# Altium footprint library con-sullinselectronics.PCBLIB: 22 footprints (part 1 of 2)
Each footprint in its own frame and in the unit in brackets; x right, y up, seen from the top. Pads: shape width x height; smd on the part's side, far side on the other; paste and mask are expansions set on the pad; w line width, h text height; cw(c..) or ccw(c..) is an arc to the next point about the centre after c.
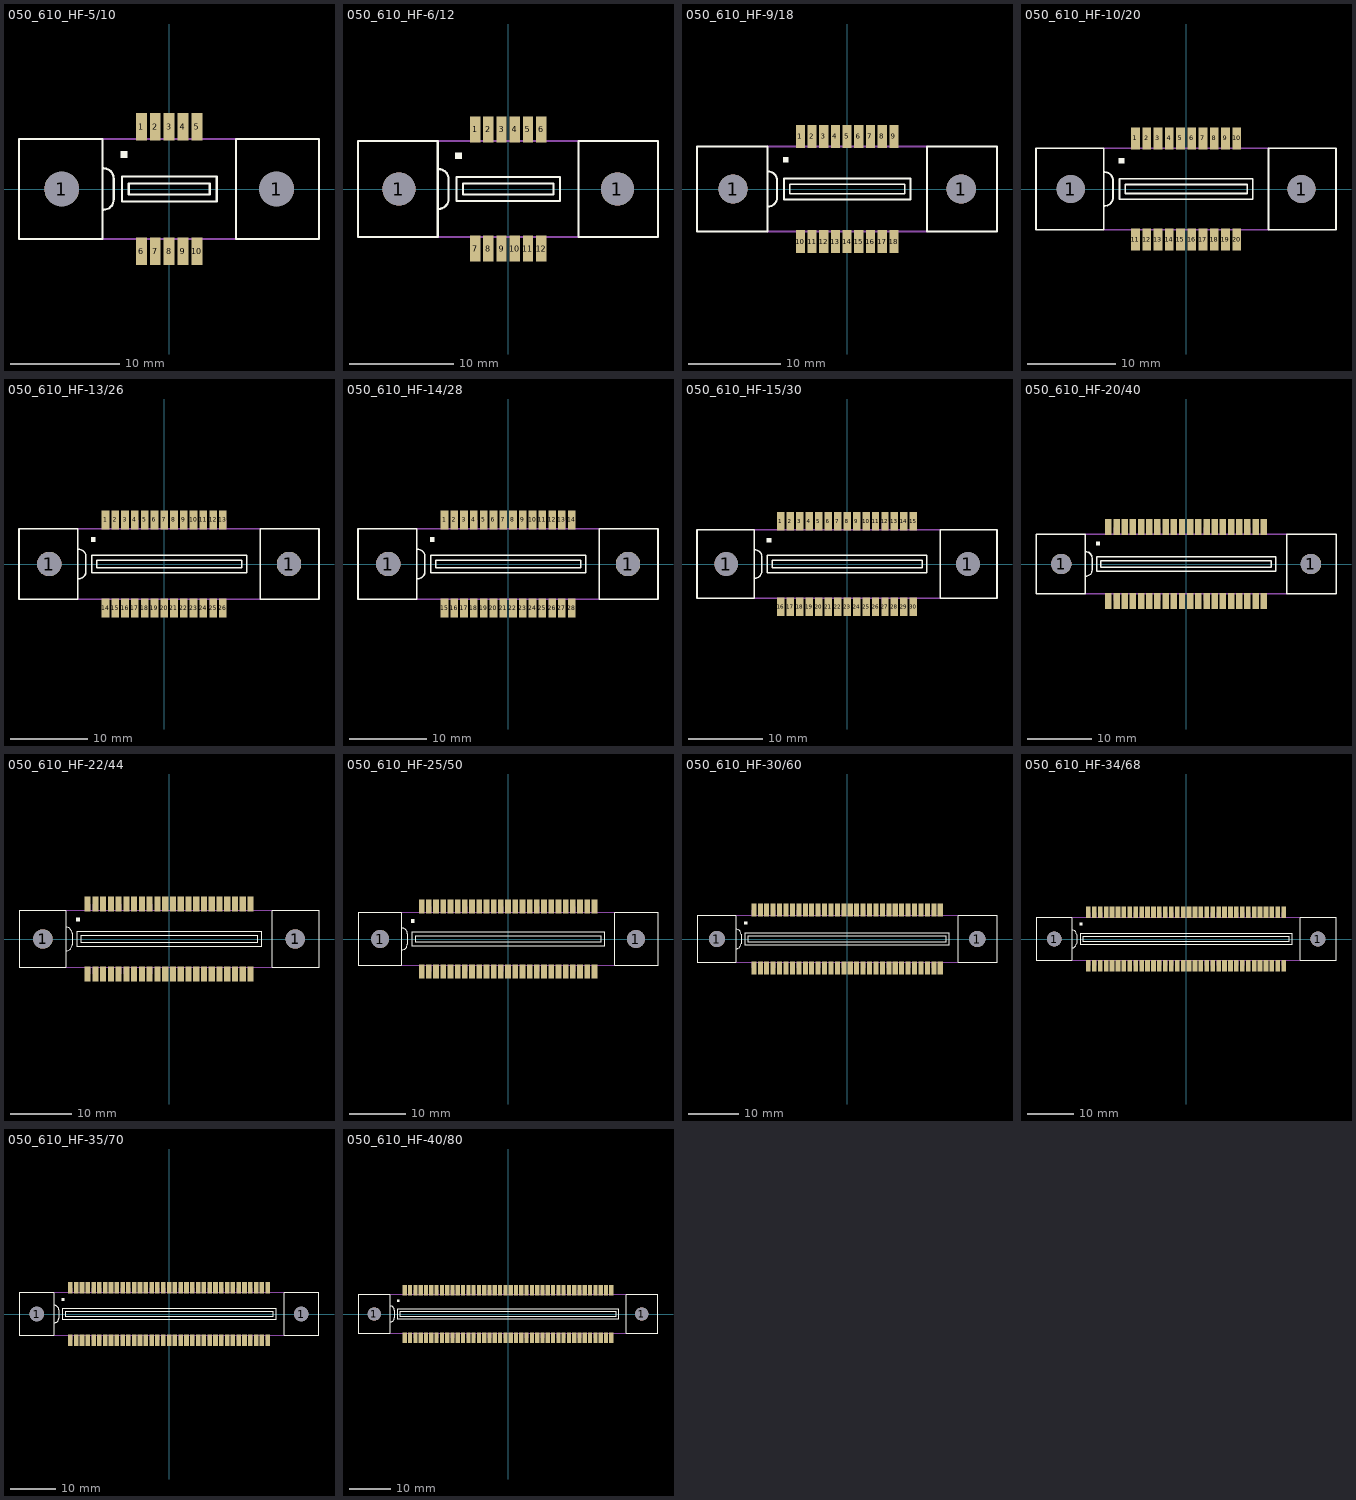
[diagram p0: the footprints below, top view; thin cyan lines are the x and y axes]

## 050_610_HF-5/10 [mm]
pads (12):
  round 3.18 hole 3.18: 1(-9.855,0) 1(9.855,0)
  rect 1x2.5 smd: 1(-2.54,5.715) 2(-1.27,5.715) 3(0,5.715) 4(1.27,5.715) 5(2.54,5.715) 6(-2.54,-5.715) 7(-1.27,-5.715) 8(0,-5.715) 9(1.27,-5.715) 10(2.54,-5.715)
Top Overlay:
  rectangle: -4.445,2.857 -3.81,3.492
  lines w0.203: -6.032,-1.905 ccw(c-6.033,-0.952) -5.08,-0.953 -5.08,0.953 ccw(c-6.032,0.953) -6.032,1.905 ; -13.775,-4.6 -6.125,-4.6 -6.125,4.6 -13.775,4.6 -13.775,-4.6 ; -4.335,-1.15 4.36,-1.15 4.36,1.15 -4.335,1.15 -4.335,-1.15 ; -3.7,-0.515 3.725,-0.515 3.725,0.515 -3.7,0.515 -3.7,-0.515 ; 6.125,-4.6 13.75,-4.6 13.75,4.6 6.125,4.6 6.125,-4.6
Mechanical 16:
  rectangle: -2.975,4.65 -2.1,5.7
  rectangle: -1.705,4.65 -0.83,5.7
  rectangle: -0.435,4.65 0.44,5.7
  rectangle: 0.835,4.65 1.71,5.7
  rectangle: 2.105,4.65 2.98,5.7
  region: 2.975,-4.65 2.1,-4.65 2.1,-5.7 2.975,-5.7
  region: 1.705,-4.65 0.83,-4.65 0.83,-5.7 1.705,-5.7
  region: 0.435,-4.65 -0.44,-4.65 -0.44,-5.7 0.435,-5.7
  region: -0.835,-4.65 -1.71,-4.65 -1.71,-5.7 -0.835,-5.7
  region: -2.105,-4.65 -2.98,-4.65 -2.98,-5.7 -2.105,-5.7
  lines w0.203: -6.125,-4.6 6.125,-4.6 ; -6.125,4.6 6.125,4.6

## 050_610_HF-6/12 [mm]
pads (14):
  round 3.18 hole 3.18: 1(-10.49,0) 1(10.49,0)
  rect 1x2.5 smd: 1(-3.175,5.715) 2(-1.905,5.715) 3(-0.635,5.715) 4(0.635,5.715) 5(1.905,5.715) 6(3.175,5.715) 7(-3.175,-5.715) 8(-1.905,-5.715) 9(-0.635,-5.715) 10(0.635,-5.715) 11(1.905,-5.715) 12(3.175,-5.715)
Top Overlay:
  rectangle: -5.08,2.857 -4.445,3.492
  lines w0.203: -6.667,-1.905 ccw(c-6.668,-0.952) -5.715,-0.953 -5.715,0.953 ccw(c-6.667,0.953) -6.667,1.905 ; -14.41,-4.6 -6.76,-4.6 -6.76,4.6 -14.41,4.6 -14.41,-4.6 ; -4.97,-1.15 4.995,-1.15 4.995,1.15 -4.97,1.15 -4.97,-1.15 ; -4.335,-0.515 4.36,-0.515 4.36,0.515 -4.335,0.515 -4.335,-0.515 ; 6.76,-4.6 14.385,-4.6 14.385,4.6 6.76,4.6 6.76,-4.6
Mechanical 16:
  rectangle: -3.61,4.65 -2.735,5.7
  rectangle: -2.34,4.65 -1.465,5.7
  rectangle: -1.07,4.65 -0.195,5.7
  rectangle: 0.2,4.65 1.075,5.7
  rectangle: 1.47,4.65 2.345,5.7
  rectangle: 2.74,4.65 3.615,5.7
  region: 1.07,-4.65 0.195,-4.65 0.195,-5.7 1.07,-5.7
  region: -0.2,-4.65 -1.075,-4.65 -1.075,-5.7 -0.2,-5.7
  region: -1.47,-4.65 -2.345,-4.65 -2.345,-5.7 -1.47,-5.7
  region: -2.74,-4.65 -3.615,-4.65 -3.615,-5.7 -2.74,-5.7
  region: 3.61,-4.65 2.735,-4.65 2.735,-5.7 3.61,-5.7
  region: 2.34,-4.65 1.465,-4.65 1.465,-5.7 2.34,-5.7
  lines w0.203: -6.76,-4.6 6.76,-4.6 ; -6.76,4.6 6.76,4.6

## 050_610_HF-9/18 [mm]
pads (20):
  round 3.18 hole 3.18: 1(-12.395,0) 1(12.395,0)
  rect 1x2.5 smd: 1(-5.08,5.715) 2(-3.81,5.715) 3(-2.54,5.715) 4(-1.27,5.715) 5(0,5.715) 6(1.27,5.715) 7(2.54,5.715) 8(3.81,5.715) 9(5.08,5.715) 10(-5.08,-5.715) 11(-3.81,-5.715) 12(-2.54,-5.715) 13(-1.27,-5.715) 14(0,-5.715) 15(1.27,-5.715) 16(2.54,-5.715) 17(3.81,-5.715) 18(5.08,-5.715)
Top Overlay:
  rectangle: -6.985,2.857 -6.35,3.492
  lines w0.203: -8.572,-1.905 ccw(c-8.573,-0.952) -7.62,-0.953 -7.62,0.953 ccw(c-8.572,0.953) -8.572,1.905 ; -16.315,-4.6 -8.665,-4.6 -8.665,4.6 -16.315,4.6 -16.315,-4.6 ; -6.875,-1.15 6.9,-1.15 6.9,1.15 -6.875,1.15 -6.875,-1.15 ; -6.24,-0.515 6.265,-0.515 6.265,0.515 -6.24,0.515 -6.24,-0.515 ; 8.665,-4.6 16.29,-4.6 16.29,4.6 8.665,4.6 8.665,-4.6
Mechanical 16:
  rectangle: -5.515,4.65 -4.64,5.7
  rectangle: -4.245,4.65 -3.37,5.7
  rectangle: -2.975,4.65 -2.1,5.7
  rectangle: -1.705,4.65 -0.83,5.7
  rectangle: -0.435,4.65 0.44,5.7
  rectangle: 0.835,4.65 1.71,5.7
  rectangle: 2.105,4.65 2.98,5.7
  rectangle: 3.375,4.65 4.25,5.7
  rectangle: 4.645,4.65 5.52,5.7
  region: -4.645,-4.65 -5.52,-4.65 -5.52,-5.7 -4.645,-5.7
  region: 5.515,-4.65 4.64,-4.65 4.64,-5.7 5.515,-5.7
  region: 4.245,-4.65 3.37,-4.65 3.37,-5.7 4.245,-5.7
  region: 2.975,-4.65 2.1,-4.65 2.1,-5.7 2.975,-5.7
  region: 1.705,-4.65 0.83,-4.65 0.83,-5.7 1.705,-5.7
  region: 0.435,-4.65 -0.44,-4.65 -0.44,-5.7 0.435,-5.7
  region: -0.835,-4.65 -1.71,-4.65 -1.71,-5.7 -0.835,-5.7
  region: -2.105,-4.65 -2.98,-4.65 -2.98,-5.7 -2.105,-5.7
  region: -3.375,-4.65 -4.25,-4.65 -4.25,-5.7 -3.375,-5.7
  lines w0.203: -8.665,-4.6 8.665,-4.6 ; -8.665,4.6 8.665,4.6

## 050_610_HF-10/20 [mm]
pads (22):
  round 3.18 hole 3.18: 1(-13.03,0) 1(13.03,0)
  rect 1x2.5 smd: 1(-5.715,5.715) 2(-4.445,5.715) 3(-3.175,5.715) 4(-1.905,5.715) 5(-0.635,5.715) 6(0.635,5.715) 7(1.905,5.715) 8(3.175,5.715) 9(4.445,5.715) 10(5.715,5.715) 11(-5.715,-5.715) 12(-4.445,-5.715) 13(-3.175,-5.715) 14(-1.905,-5.715) 15(-0.635,-5.715) 16(0.635,-5.715) 17(1.905,-5.715) 18(3.175,-5.715) 19(4.445,-5.715) 20(5.715,-5.715)
Top Overlay:
  rectangle: -7.62,2.857 -6.985,3.492
  lines w0.203: -9.207,-1.905 ccw(c-9.208,-0.952) -8.255,-0.953 -8.255,0.953 ccw(c-9.207,0.953) -9.207,1.905 ; -16.95,-4.6 -9.3,-4.6 -9.3,4.6 -16.95,4.6 -16.95,-4.6 ; -7.51,-1.15 7.535,-1.15 7.535,1.15 -7.51,1.15 -7.51,-1.15 ; -6.875,-0.515 6.9,-0.515 6.9,0.515 -6.875,0.515 -6.875,-0.515 ; 9.3,-4.6 16.925,-4.6 16.925,4.6 9.3,4.6 9.3,-4.6
Mechanical 16:
  rectangle: -6.15,4.65 -5.275,5.7
  rectangle: -4.88,4.65 -4.005,5.7
  rectangle: -3.61,4.65 -2.735,5.7
  rectangle: -2.34,4.65 -1.465,5.7
  rectangle: -1.07,4.65 -0.195,5.7
  rectangle: 0.2,4.65 1.075,5.7
  rectangle: 1.47,4.65 2.345,5.7
  rectangle: 2.74,4.65 3.615,5.7
  rectangle: 4.01,4.65 4.885,5.7
  rectangle: 5.28,4.65 6.155,5.7
  region: 6.15,-4.65 5.275,-4.65 5.275,-5.7 6.15,-5.7
  region: 4.88,-4.65 4.005,-4.65 4.005,-5.7 4.88,-5.7
  region: 3.61,-4.65 2.735,-4.65 2.735,-5.7 3.61,-5.7
  region: 2.34,-4.65 1.465,-4.65 1.465,-5.7 2.34,-5.7
  region: 1.07,-4.65 0.195,-4.65 0.195,-5.7 1.07,-5.7
  region: -0.2,-4.65 -1.075,-4.65 -1.075,-5.7 -0.2,-5.7
  region: -1.47,-4.65 -2.345,-4.65 -2.345,-5.7 -1.47,-5.7
  region: -2.74,-4.65 -3.615,-4.65 -3.615,-5.7 -2.74,-5.7
  region: -4.01,-4.65 -4.885,-4.65 -4.885,-5.7 -4.01,-5.7
  region: -5.28,-4.65 -6.155,-4.65 -6.155,-5.7 -5.28,-5.7
  lines w0.203: -9.3,-4.6 9.3,-4.6 ; -9.3,4.6 9.3,4.6

## 050_610_HF-13/26 [mm]
pads (28):
  round 3.18 hole 3.18: 1(-14.935,0) 1(16.205,0)
  rect 1x2.5 smd: 1(-7.62,5.715) 2(-6.35,5.715) 3(-5.08,5.715) 4(-3.81,5.715) 5(-2.54,5.715) 6(-1.27,5.715) 7(0,5.715) 8(1.27,5.715) 9(2.54,5.715) 10(3.81,5.715) 11(5.08,5.715) 12(6.35,5.715) 13(7.62,5.715) 14(-7.62,-5.715) 15(-6.35,-5.715) 16(-5.08,-5.715) 17(-3.81,-5.715) 18(-2.54,-5.715) 19(-1.27,-5.715) 20(0,-5.715) 21(1.27,-5.715) 22(2.54,-5.715) 23(3.81,-5.715) 24(5.08,-5.715) 25(6.35,-5.715) 26(7.62,-5.715)
Top Overlay:
  rectangle: -9.525,2.857 -8.89,3.492
  lines w0.203: -11.112,-1.905 ccw(c-11.113,-0.952) -10.16,-0.953 -10.16,0.953 ccw(c-11.112,0.953) -11.112,1.905 ; -18.855,-4.6 -11.205,-4.6 -11.205,4.6 -18.855,4.6 -18.855,-4.6 ; -9.415,-1.15 10.71,-1.15 10.71,1.15 -9.415,1.15 -9.415,-1.15 ; -8.78,-0.515 10.075,-0.515 10.075,0.515 -8.78,0.515 -8.78,-0.515 ; 12.475,-4.6 20.1,-4.6 20.1,4.6 12.475,4.6 12.475,-4.6
Mechanical 16:
  rectangle: -8.055,4.65 -7.18,5.7
  rectangle: -6.785,4.65 -5.91,5.7
  rectangle: -5.515,4.65 -4.64,5.7
  rectangle: -4.245,4.65 -3.37,5.7
  rectangle: -2.975,4.65 -2.1,5.7
  rectangle: -1.705,4.65 -0.83,5.7
  rectangle: -0.435,4.65 0.44,5.7
  rectangle: 0.835,4.65 1.71,5.7
  rectangle: 2.105,4.65 2.98,5.7
  rectangle: 3.375,4.65 4.25,5.7
  region: 0.435,-4.65 -0.44,-4.65 -0.44,-5.7 0.435,-5.7
  region: -0.835,-4.65 -1.71,-4.65 -1.71,-5.7 -0.835,-5.7
  region: -2.105,-4.65 -2.98,-4.65 -2.98,-5.7 -2.105,-5.7
  region: -3.375,-4.65 -4.25,-4.65 -4.25,-5.7 -3.375,-5.7
  region: -4.645,-4.65 -5.52,-4.65 -5.52,-5.7 -4.645,-5.7
  region: -5.915,-4.65 -6.79,-4.65 -6.79,-5.7 -5.915,-5.7
  region: -7.185,-4.65 -8.06,-4.65 -8.06,-5.7 -7.185,-5.7
  rectangle: 4.645,4.65 5.52,5.7
  rectangle: 5.915,4.65 6.79,5.7
  rectangle: 7.185,4.65 8.06,5.7
  region: 8.055,-4.65 7.18,-4.65 7.18,-5.7 8.055,-5.7
  region: 6.785,-4.65 5.91,-4.65 5.91,-5.7 6.785,-5.7
  region: 5.515,-4.65 4.64,-4.65 4.64,-5.7 5.515,-5.7
  region: 4.245,-4.65 3.37,-4.65 3.37,-5.7 4.245,-5.7
  region: 2.975,-4.65 2.1,-4.65 2.1,-5.7 2.975,-5.7
  region: 1.705,-4.65 0.83,-4.65 0.83,-5.7 1.705,-5.7
  lines w0.203: -11.205,-4.6 12.475,-4.6 ; -11.205,4.6 12.475,4.6

## 050_610_HF-14/28 [mm]
pads (30):
  round 3.18 hole 3.18: 1(-15.57,0) 1(15.57,0)
  rect 1x2.5 smd: 1(-8.255,5.715) 2(-6.985,5.715) 3(-5.715,5.715) 4(-4.445,5.715) 5(-3.175,5.715) 6(-1.905,5.715) 7(-0.635,5.715) 8(0.635,5.715) 9(1.905,5.715) 10(3.175,5.715) 11(4.445,5.715) 12(5.715,5.715) 13(6.985,5.715) 14(8.255,5.715) 15(-8.255,-5.715) 16(-6.985,-5.715) 17(-5.715,-5.715) 18(-4.445,-5.715) 19(-3.175,-5.715) 20(-1.905,-5.715) 21(-0.635,-5.715) 22(0.635,-5.715) 23(1.905,-5.715) 24(3.175,-5.715) 25(4.445,-5.715) 26(5.715,-5.715) 27(6.985,-5.715) 28(8.255,-5.715)
Top Overlay:
  rectangle: -10.16,2.857 -9.525,3.492
  lines w0.203: -11.747,-1.905 ccw(c-11.748,-0.952) -10.795,-0.953 -10.795,0.953 ccw(c-11.747,0.953) -11.747,1.905 ; -19.49,-4.6 -11.84,-4.6 -11.84,4.6 -19.49,4.6 -19.49,-4.6 ; -10.05,-1.15 10.075,-1.15 10.075,1.15 -10.05,1.15 -10.05,-1.15 ; -9.415,-0.515 9.44,-0.515 9.44,0.515 -9.415,0.515 -9.415,-0.515 ; 11.84,-4.6 19.465,-4.6 19.465,4.6 11.84,4.6 11.84,-4.6
Mechanical 16:
  rectangle: -8.69,4.65 -7.815,5.7
  rectangle: -7.42,4.65 -6.545,5.7
  rectangle: -6.15,4.65 -5.275,5.7
  rectangle: -4.88,4.65 -4.005,5.7
  rectangle: -3.61,4.65 -2.735,5.7
  rectangle: -2.34,4.65 -1.465,5.7
  rectangle: -1.07,4.65 -0.195,5.7
  rectangle: 0.2,4.65 1.075,5.7
  rectangle: 1.47,4.65 2.345,5.7
  rectangle: 2.74,4.65 3.615,5.7
  region: -1.47,-4.65 -2.345,-4.65 -2.345,-5.7 -1.47,-5.7
  region: -2.74,-4.65 -3.615,-4.65 -3.615,-5.7 -2.74,-5.7
  region: -4.01,-4.65 -4.885,-4.65 -4.885,-5.7 -4.01,-5.7
  region: -5.28,-4.65 -6.155,-4.65 -6.155,-5.7 -5.28,-5.7
  region: -6.55,-4.65 -7.425,-4.65 -7.425,-5.7 -6.55,-5.7
  region: -7.82,-4.65 -8.695,-4.65 -8.695,-5.7 -7.82,-5.7
  rectangle: 7.82,4.65 8.695,5.7
  rectangle: 4.01,4.65 4.885,5.7
  rectangle: 5.28,4.65 6.155,5.7
  rectangle: 6.55,4.65 7.425,5.7
  region: 6.15,-4.65 5.275,-4.65 5.275,-5.7 6.15,-5.7
  region: 4.88,-4.65 4.005,-4.65 4.005,-5.7 4.88,-5.7
  region: 3.61,-4.65 2.735,-4.65 2.735,-5.7 3.61,-5.7
  region: 2.34,-4.65 1.465,-4.65 1.465,-5.7 2.34,-5.7
  region: 1.07,-4.65 0.195,-4.65 0.195,-5.7 1.07,-5.7
  region: -0.2,-4.65 -1.075,-4.65 -1.075,-5.7 -0.2,-5.7
  region: 8.69,-4.65 7.815,-4.65 7.815,-5.7 8.69,-5.7
  region: 7.42,-4.65 6.545,-4.65 6.545,-5.7 7.42,-5.7
  lines w0.203: -11.84,-4.6 11.84,-4.6 ; -11.84,4.6 11.84,4.6

## 050_610_HF-15/30 [mm]
pads (32):
  round 3.18 hole 3.18: 1(-16.205,0) 1(16.205,0)
  rect 1x2.5 smd: 1(-8.89,5.715) 2(-7.62,5.715) 3(-6.35,5.715) 4(-5.08,5.715) 5(-3.81,5.715) 6(-2.54,5.715) 7(-1.27,5.715) 8(0,5.715) 9(1.27,5.715) 10(2.54,5.715) 11(3.81,5.715) 12(5.08,5.715) 13(6.35,5.715) 14(7.62,5.715) 15(8.89,5.715) 16(-8.89,-5.715) 17(-7.62,-5.715) 18(-6.35,-5.715) 19(-5.08,-5.715) 20(-3.81,-5.715) 21(-2.54,-5.715) 22(-1.27,-5.715) 23(0,-5.715) 24(1.27,-5.715) 25(2.54,-5.715) 26(3.81,-5.715) 27(5.08,-5.715) 28(6.35,-5.715) 29(7.62,-5.715) 30(8.89,-5.715)
Top Overlay:
  rectangle: -10.795,2.857 -10.16,3.492
  lines w0.203: -12.382,-1.905 ccw(c-12.383,-0.952) -11.43,-0.953 -11.43,0.953 ccw(c-12.383,0.953) -12.383,1.905 ; -20.125,-4.6 -12.475,-4.6 -12.475,4.6 -20.125,4.6 -20.125,-4.6 ; -10.685,-1.15 10.71,-1.15 10.71,1.15 -10.685,1.15 -10.685,-1.15 ; -10.05,-0.515 10.075,-0.515 10.075,0.515 -10.05,0.515 -10.05,-0.515 ; 12.475,-4.6 20.1,-4.6 20.1,4.6 12.475,4.6 12.475,-4.6
Mechanical 16:
  rectangle: -9.325,4.65 -8.45,5.7
  rectangle: -8.055,4.65 -7.18,5.7
  rectangle: -6.785,4.65 -5.91,5.7
  rectangle: -5.515,4.65 -4.64,5.7
  rectangle: -4.245,4.65 -3.37,5.7
  rectangle: -2.975,4.65 -2.1,5.7
  rectangle: -1.705,4.65 -0.83,5.7
  rectangle: -0.435,4.65 0.44,5.7
  rectangle: 0.835,4.65 1.71,5.7
  rectangle: 2.105,4.65 2.98,5.7
  region: -3.375,-4.65 -4.25,-4.65 -4.25,-5.7 -3.375,-5.7
  region: -4.645,-4.65 -5.52,-4.65 -5.52,-5.7 -4.645,-5.7
  region: -5.915,-4.65 -6.79,-4.65 -6.79,-5.7 -5.915,-5.7
  region: -7.185,-4.65 -8.06,-4.65 -8.06,-5.7 -7.185,-5.7
  region: -8.455,-4.65 -9.33,-4.65 -9.33,-5.7 -8.455,-5.7
  rectangle: 8.455,4.65 9.33,5.7
  rectangle: 7.185,4.65 8.06,5.7
  rectangle: 3.375,4.65 4.25,5.7
  rectangle: 4.645,4.65 5.52,5.7
  rectangle: 5.915,4.65 6.79,5.7
  region: 4.245,-4.65 3.37,-4.65 3.37,-5.7 4.245,-5.7
  region: 2.975,-4.65 2.1,-4.65 2.1,-5.7 2.975,-5.7
  region: 1.705,-4.65 0.83,-4.65 0.83,-5.7 1.705,-5.7
  region: 0.435,-4.65 -0.44,-4.65 -0.44,-5.7 0.435,-5.7
  region: -0.835,-4.65 -1.71,-4.65 -1.71,-5.7 -0.835,-5.7
  region: -2.105,-4.65 -2.98,-4.65 -2.98,-5.7 -2.105,-5.7
  region: 6.785,-4.65 5.91,-4.65 5.91,-5.7 6.785,-5.7
  region: 5.515,-4.65 4.64,-4.65 4.64,-5.7 5.515,-5.7
  region: 8.055,-4.65 7.18,-4.65 7.18,-5.7 8.055,-5.7
  region: 9.325,-4.65 8.45,-4.65 8.45,-5.7 9.325,-5.7
  lines w0.203: -12.475,-4.6 12.475,-4.6 ; -12.475,4.6 12.475,4.6

## 050_610_HF-20/40 [mm]
pads (42):
  round 3.18 hole 3.18: 1(-19.38,0) 1(19.38,0)
  rect 1x2.5 smd: 1(-12.065,5.715) 2(-10.795,5.715) 3(-9.525,5.715) 4(-8.255,5.715) 5(-6.985,5.715) 6(-5.715,5.715) 7(-4.445,5.715) 8(-3.175,5.715) 9(-1.905,5.715) 10(-0.635,5.715) 11(0.635,5.715) 12(1.905,5.715) 13(3.175,5.715) 14(4.445,5.715) 15(5.715,5.715) 16(6.985,5.715) 17(8.255,5.715) 18(9.525,5.715) 19(10.795,5.715) 20(12.065,5.715) 21(-12.065,-5.715) 22(-10.795,-5.715) 23(-9.525,-5.715) 24(-8.255,-5.715) 25(-6.985,-5.715) 26(-5.715,-5.715) 27(-4.445,-5.715) 28(-3.175,-5.715) 29(-1.905,-5.715) 30(-0.635,-5.715) 31(0.635,-5.715) 32(1.905,-5.715) 33(3.175,-5.715) 34(4.445,-5.715) 35(5.715,-5.715) 36(6.985,-5.715) 37(8.255,-5.715) 38(9.525,-5.715) 39(10.795,-5.715) 40(12.065,-5.715)
Top Overlay:
  rectangle: -13.97,2.857 -13.335,3.492
  lines w0.203: -15.557,-1.905 ccw(c-15.558,-0.952) -14.605,-0.953 -14.605,0.953 ccw(c-15.557,0.953) -15.557,1.905 ; -23.3,-4.6 -15.65,-4.6 -15.65,4.6 -23.3,4.6 -23.3,-4.6 ; -13.86,-1.15 13.885,-1.15 13.885,1.15 -13.86,1.15 -13.86,-1.15 ; -13.225,-0.515 13.25,-0.515 13.25,0.515 -13.225,0.515 -13.225,-0.515 ; 15.65,-4.6 23.275,-4.6 23.275,4.6 15.65,4.6 15.65,-4.6
Mechanical 16:
  rectangle: -12.5,4.65 -11.625,5.7
  rectangle: -11.23,4.65 -10.355,5.7
  rectangle: -9.96,4.65 -9.085,5.7
  rectangle: -8.69,4.65 -7.815,5.7
  rectangle: -7.42,4.65 -6.545,5.7
  rectangle: -6.15,4.65 -5.275,5.7
  rectangle: -4.88,4.65 -4.005,5.7
  rectangle: -3.61,4.65 -2.735,5.7
  rectangle: -2.34,4.65 -1.465,5.7
  rectangle: -1.07,4.65 -0.195,5.7
  rectangle: 11.63,4.65 12.505,5.7
  rectangle: 10.36,4.65 11.235,5.7
  rectangle: 9.09,4.65 9.965,5.7
  rectangle: 7.82,4.65 8.695,5.7
  rectangle: 6.55,4.65 7.425,5.7
  rectangle: 5.28,4.65 6.155,5.7
  rectangle: 4.01,4.65 4.885,5.7
  rectangle: 0.2,4.65 1.075,5.7
  rectangle: 1.47,4.65 2.345,5.7
  rectangle: 2.74,4.65 3.615,5.7
  region: -5.28,-4.65 -6.155,-4.65 -6.155,-5.7 -5.28,-5.7
  region: -6.55,-4.65 -7.425,-4.65 -7.425,-5.7 -6.55,-5.7
  region: -7.82,-4.65 -8.695,-4.65 -8.695,-5.7 -7.82,-5.7
  region: -9.09,-4.65 -9.965,-4.65 -9.965,-5.7 -9.09,-5.7
  region: -10.36,-4.65 -11.235,-4.65 -11.235,-5.7 -10.36,-5.7
  region: -11.63,-4.65 -12.505,-4.65 -12.505,-5.7 -11.63,-5.7
  region: -2.74,-4.65 -3.615,-4.65 -3.615,-5.7 -2.74,-5.7
  region: -4.01,-4.65 -4.885,-4.65 -4.885,-5.7 -4.01,-5.7
  region: -1.47,-4.65 -2.345,-4.65 -2.345,-5.7 -1.47,-5.7
  region: -0.2,-4.65 -1.075,-4.65 -1.075,-5.7 -0.2,-5.7
  region: 7.42,-4.65 6.545,-4.65 6.545,-5.7 7.42,-5.7
  region: 6.15,-4.65 5.275,-4.65 5.275,-5.7 6.15,-5.7
  region: 4.88,-4.65 4.005,-4.65 4.005,-5.7 4.88,-5.7
  region: 3.61,-4.65 2.735,-4.65 2.735,-5.7 3.61,-5.7
  region: 2.34,-4.65 1.465,-4.65 1.465,-5.7 2.34,-5.7
  region: 1.07,-4.65 0.195,-4.65 0.195,-5.7 1.07,-5.7
  region: 9.96,-4.65 9.085,-4.65 9.085,-5.7 9.96,-5.7
  region: 8.69,-4.65 7.815,-4.65 7.815,-5.7 8.69,-5.7
  region: 11.23,-4.65 10.355,-4.65 10.355,-5.7 11.23,-5.7
  region: 12.5,-4.65 11.625,-4.65 11.625,-5.7 12.5,-5.7
  lines w0.203: -15.65,-4.6 15.65,-4.6 ; -15.65,4.6 15.65,4.6

## 050_610_HF-22/44 [mm]
pads (46):
  round 3.18 hole 3.18: 1(-20.65,0) 1(20.65,0)
  rect 1x2.5 smd: 1(-13.335,5.715) 2(-12.065,5.715) 3(-10.795,5.715) 4(-9.525,5.715) 5(-8.255,5.715) 6(-6.985,5.715) 7(-5.715,5.715) 8(-4.445,5.715) 9(-3.175,5.715) 10(-1.905,5.715) 11(-0.635,5.715) 12(0.635,5.715) 13(1.905,5.715) 14(3.175,5.715) 15(4.445,5.715) 16(5.715,5.715) 17(6.985,5.715) 18(8.255,5.715) 19(9.525,5.715) 20(10.795,5.715) 21(12.065,5.715) 22(13.335,5.715) 23(-13.335,-5.715) 24(-12.065,-5.715) 25(-10.795,-5.715) 26(-9.525,-5.715) 27(-8.255,-5.715) 28(-6.985,-5.715) 29(-5.715,-5.715) 30(-4.445,-5.715) 31(-3.175,-5.715) 32(-1.905,-5.715) 33(-0.635,-5.715) 34(0.635,-5.715) 35(1.905,-5.715) 36(3.175,-5.715) 37(4.445,-5.715) 38(5.715,-5.715) 39(6.985,-5.715) 40(8.255,-5.715) 41(9.525,-5.715) 42(10.795,-5.715) 43(12.065,-5.715) 44(13.335,-5.715)
Top Overlay:
  rectangle: -15.24,2.857 -14.605,3.492
  lines w0.203: -16.827,-1.905 ccw(c-16.828,-0.952) -15.875,-0.953 -15.875,0.953 ccw(c-16.828,0.953) -16.828,1.905 ; -24.57,-4.6 -16.92,-4.6 -16.92,4.6 -24.57,4.6 -24.57,-4.6 ; -15.13,-1.15 15.155,-1.15 15.155,1.15 -15.13,1.15 -15.13,-1.15 ; -14.495,-0.515 14.52,-0.515 14.52,0.515 -14.495,0.515 -14.495,-0.515 ; 16.92,-4.6 24.545,-4.6 24.545,4.6 16.92,4.6 16.92,-4.6
Mechanical 16:
  rectangle: -13.77,4.65 -12.895,5.7
  rectangle: -12.5,4.65 -11.625,5.7
  rectangle: -11.23,4.65 -10.355,5.7
  rectangle: -9.96,4.65 -9.085,5.7
  rectangle: -8.69,4.65 -7.815,5.7
  rectangle: -7.42,4.65 -6.545,5.7
  rectangle: -6.15,4.65 -5.275,5.7
  rectangle: -4.88,4.65 -4.005,5.7
  rectangle: -3.61,4.65 -2.735,5.7
  rectangle: -2.34,4.65 -1.465,5.7
  rectangle: 10.36,4.65 11.235,5.7
  rectangle: 9.09,4.65 9.965,5.7
  rectangle: 7.82,4.65 8.695,5.7
  rectangle: 6.55,4.65 7.425,5.7
  rectangle: 5.28,4.65 6.155,5.7
  rectangle: 4.01,4.65 4.885,5.7
  rectangle: 2.74,4.65 3.615,5.7
  rectangle: -1.07,4.65 -0.195,5.7
  rectangle: 0.2,4.65 1.075,5.7
  rectangle: 1.47,4.65 2.345,5.7
  region: -9.09,-4.65 -9.965,-4.65 -9.965,-5.7 -9.09,-5.7
  region: -10.36,-4.65 -11.235,-4.65 -11.235,-5.7 -10.36,-5.7
  region: -11.63,-4.65 -12.505,-4.65 -12.505,-5.7 -11.63,-5.7
  region: -12.9,-4.65 -13.775,-4.65 -13.775,-5.7 -12.9,-5.7
  rectangle: 12.9,4.65 13.775,5.7
  rectangle: 11.63,4.65 12.505,5.7
  region: -6.55,-4.65 -7.425,-4.65 -7.425,-5.7 -6.55,-5.7
  region: -7.82,-4.65 -8.695,-4.65 -8.695,-5.7 -7.82,-5.7
  region: -5.28,-4.65 -6.155,-4.65 -6.155,-5.7 -5.28,-5.7
  region: -4.01,-4.65 -4.885,-4.65 -4.885,-5.7 -4.01,-5.7
  region: 3.61,-4.65 2.735,-4.65 2.735,-5.7 3.61,-5.7
  region: 2.34,-4.65 1.465,-4.65 1.465,-5.7 2.34,-5.7
  region: 1.07,-4.65 0.195,-4.65 0.195,-5.7 1.07,-5.7
  region: -0.2,-4.65 -1.075,-4.65 -1.075,-5.7 -0.2,-5.7
  region: -1.47,-4.65 -2.345,-4.65 -2.345,-5.7 -1.47,-5.7
  region: -2.74,-4.65 -3.615,-4.65 -3.615,-5.7 -2.74,-5.7
  region: 6.15,-4.65 5.275,-4.65 5.275,-5.7 6.15,-5.7
  region: 4.88,-4.65 4.005,-4.65 4.005,-5.7 4.88,-5.7
  region: 7.42,-4.65 6.545,-4.65 6.545,-5.7 7.42,-5.7
  region: 8.69,-4.65 7.815,-4.65 7.815,-5.7 8.69,-5.7
  region: 13.77,-4.65 12.895,-4.65 12.895,-5.7 13.77,-5.7
  region: 12.5,-4.65 11.625,-4.65 11.625,-5.7 12.5,-5.7
  region: 11.23,-4.65 10.355,-4.65 10.355,-5.7 11.23,-5.7
  region: 9.96,-4.65 9.085,-4.65 9.085,-5.7 9.96,-5.7
  lines w0.203: -16.92,-4.6 16.92,-4.6 ; -16.92,4.6 16.92,4.6

## 050_610_HF-25/50 [mm]
pads (52):
  round 3.18 hole 3.18: 1(-22.555,0) 1(22.555,0)
  rect 1x2.5 smd: 1(-15.24,5.715) 2(-13.97,5.715) 3(-12.7,5.715) 4(-11.43,5.715) 5(-10.16,5.715) 6(-8.89,5.715) 7(-7.62,5.715) 8(-6.35,5.715) 9(-5.08,5.715) 10(-3.81,5.715) 11(-2.54,5.715) 12(-1.27,5.715) 13(0,5.715) 14(1.27,5.715) 15(2.54,5.715) 16(3.81,5.715) 17(5.08,5.715) 18(6.35,5.715) 19(7.62,5.715) 20(8.89,5.715) 21(10.16,5.715) 22(11.43,5.715) 23(12.7,5.715) 24(13.97,5.715) 25(15.24,5.715) 26(-15.24,-5.715) 27(-13.97,-5.715) 28(-12.7,-5.715) 29(-11.43,-5.715) 30(-10.16,-5.715) 31(-8.89,-5.715) 32(-7.62,-5.715) 33(-6.35,-5.715) 34(-5.08,-5.715) 35(-3.81,-5.715) 36(-2.54,-5.715) 37(-1.27,-5.715) 38(0,-5.715) 39(1.27,-5.715) 40(2.54,-5.715) 41(3.81,-5.715) 42(5.08,-5.715) 43(6.35,-5.715) 44(7.62,-5.715) 45(8.89,-5.715) 46(10.16,-5.715) 47(11.43,-5.715) 48(12.7,-5.715) 49(13.97,-5.715) 50(15.24,-5.715)
Top Overlay:
  rectangle: -17.145,2.857 -16.51,3.492
  lines w0.203: -18.732,-1.905 ccw(c-18.733,-0.952) -17.78,-0.953 -17.78,0.953 ccw(c-18.732,0.953) -18.732,1.905 ; -26.475,-4.6 -18.825,-4.6 -18.825,4.6 -26.475,4.6 -26.475,-4.6 ; -17.035,-1.15 17.06,-1.15 17.06,1.15 -17.035,1.15 -17.035,-1.15 ; -16.4,-0.515 16.425,-0.515 16.425,0.515 -16.4,0.515 -16.4,-0.515 ; 18.825,-4.6 26.45,-4.6 26.45,4.6 18.825,4.6 18.825,-4.6
Mechanical 16:
  rectangle: -15.675,4.65 -14.8,5.7
  rectangle: -14.405,4.65 -13.53,5.7
  rectangle: -13.135,4.65 -12.26,5.7
  rectangle: -11.865,4.65 -10.99,5.7
  rectangle: -10.595,4.65 -9.72,5.7
  rectangle: -9.325,4.65 -8.45,5.7
  rectangle: -8.055,4.65 -7.18,5.7
  rectangle: -6.785,4.65 -5.91,5.7
  rectangle: -5.515,4.65 -4.64,5.7
  rectangle: -4.245,4.65 -3.37,5.7
  rectangle: 8.455,4.65 9.33,5.7
  rectangle: 7.185,4.65 8.06,5.7
  rectangle: 5.915,4.65 6.79,5.7
  rectangle: 4.645,4.65 5.52,5.7
  rectangle: 3.375,4.65 4.25,5.7
  rectangle: 2.105,4.65 2.98,5.7
  rectangle: 0.835,4.65 1.71,5.7
  rectangle: -2.975,4.65 -2.1,5.7
  rectangle: -1.705,4.65 -0.83,5.7
  rectangle: -0.435,4.65 0.44,5.7
  region: -14.805,-4.65 -15.68,-4.65 -15.68,-5.7 -14.805,-5.7
  rectangle: 14.805,4.65 15.68,5.7
  rectangle: 13.535,4.65 14.41,5.7
  rectangle: 12.265,4.65 13.14,5.7
  rectangle: 10.995,4.65 11.87,5.7
  rectangle: 9.725,4.65 10.6,5.7
  region: -12.265,-4.65 -13.14,-4.65 -13.14,-5.7 -12.265,-5.7
  region: -13.535,-4.65 -14.41,-4.65 -14.41,-5.7 -13.535,-5.7
  region: -10.995,-4.65 -11.87,-4.65 -11.87,-5.7 -10.995,-5.7
  region: -9.725,-4.65 -10.6,-4.65 -10.6,-5.7 -9.725,-5.7
  region: -2.105,-4.65 -2.98,-4.65 -2.98,-5.7 -2.105,-5.7
  region: -3.375,-4.65 -4.25,-4.65 -4.25,-5.7 -3.375,-5.7
  region: -4.645,-4.65 -5.52,-4.65 -5.52,-5.7 -4.645,-5.7
  region: -5.915,-4.65 -6.79,-4.65 -6.79,-5.7 -5.915,-5.7
  region: -7.185,-4.65 -8.06,-4.65 -8.06,-5.7 -7.185,-5.7
  region: -8.455,-4.65 -9.33,-4.65 -9.33,-5.7 -8.455,-5.7
  region: 0.435,-4.65 -0.44,-4.65 -0.44,-5.7 0.435,-5.7
  region: -0.835,-4.65 -1.71,-4.65 -1.71,-5.7 -0.835,-5.7
  region: 1.705,-4.65 0.83,-4.65 0.83,-5.7 1.705,-5.7
  region: 2.975,-4.65 2.1,-4.65 2.1,-5.7 2.975,-5.7
  region: 8.055,-4.65 7.18,-4.65 7.18,-5.7 8.055,-5.7
  region: 6.785,-4.65 5.91,-4.65 5.91,-5.7 6.785,-5.7
  region: 5.515,-4.65 4.64,-4.65 4.64,-5.7 5.515,-5.7
  region: 4.245,-4.65 3.37,-4.65 3.37,-5.7 4.245,-5.7
  region: 9.325,-4.65 8.45,-4.65 8.45,-5.7 9.325,-5.7
  region: 10.595,-4.65 9.72,-4.65 9.72,-5.7 10.595,-5.7
  region: 11.865,-4.65 10.99,-4.65 10.99,-5.7 11.865,-5.7
  region: 15.675,-4.65 14.8,-4.65 14.8,-5.7 15.675,-5.7
  region: 14.405,-4.65 13.53,-4.65 13.53,-5.7 14.405,-5.7
  region: 13.135,-4.65 12.26,-4.65 12.26,-5.7 13.135,-5.7
  lines w0.203: -18.825,-4.6 18.825,-4.6 ; -18.825,4.6 18.825,4.6

## 050_610_HF-30/60 [mm]
pads (62):
  round 3.18 hole 3.18: 1(-25.73,0) 1(25.73,0)
  rect 1x2.5 smd: 1(-18.415,5.715) 2(-17.145,5.715) 3(-15.875,5.715) 4(-14.605,5.715) 5(-13.335,5.715) 6(-12.065,5.715) 7(-10.795,5.715) 8(-9.525,5.715) 9(-8.255,5.715) 10(-6.985,5.715) 11(-5.715,5.715) 12(-4.445,5.715) 13(-3.175,5.715) 14(-1.905,5.715) 15(-0.635,5.715) 16(0.635,5.715) 17(1.905,5.715) 18(3.175,5.715) 19(4.445,5.715) 20(5.715,5.715) 21(6.985,5.715) 22(8.255,5.715) 23(9.525,5.715) 24(10.795,5.715) 25(12.065,5.715) 26(13.335,5.715) 27(14.605,5.715) 28(15.875,5.715) 29(17.145,5.715) 30(18.415,5.715) 31(-18.415,-5.715) 32(-17.145,-5.715) 33(-15.875,-5.715) 34(-14.605,-5.715) 35(-13.335,-5.715) 36(-12.065,-5.715) 37(-10.795,-5.715) 38(-9.525,-5.715) 39(-8.255,-5.715) 40(-6.985,-5.715) 41(-5.715,-5.715) 42(-4.445,-5.715) 43(-3.175,-5.715) 44(-1.905,-5.715) 45(-0.635,-5.715) 46(0.635,-5.715) 47(1.905,-5.715) 48(3.175,-5.715) 49(4.445,-5.715) 50(5.715,-5.715) 51(6.985,-5.715) 52(8.255,-5.715) 53(9.525,-5.715) 54(10.795,-5.715) 55(12.065,-5.715) 56(13.335,-5.715) 57(14.605,-5.715) 58(15.875,-5.715) 59(17.145,-5.715) 60(18.415,-5.715)
Top Overlay:
  rectangle: -20.32,2.857 -19.685,3.492
  lines w0.203: -21.907,-1.905 ccw(c-21.908,-0.952) -20.955,-0.953 -20.955,0.953 ccw(c-21.907,0.953) -21.907,1.905 ; -29.65,-4.6 -22,-4.6 -22,4.6 -29.65,4.6 -29.65,-4.6 ; -20.21,-1.15 20.235,-1.15 20.235,1.15 -20.21,1.15 -20.21,-1.15 ; -19.575,-0.515 19.6,-0.515 19.6,0.515 -19.575,0.515 -19.575,-0.515 ; 22,-4.6 29.625,-4.6 29.625,4.6 22,4.6 22,-4.6
Mechanical 16:
  rectangle: -18.85,4.65 -17.975,5.7
  rectangle: -17.58,4.65 -16.705,5.7
  rectangle: -16.31,4.65 -15.435,5.7
  rectangle: -15.04,4.65 -14.165,5.7
  rectangle: -13.77,4.65 -12.895,5.7
  rectangle: -12.5,4.65 -11.625,5.7
  rectangle: -11.23,4.65 -10.355,5.7
  rectangle: -9.96,4.65 -9.085,5.7
  rectangle: -8.69,4.65 -7.815,5.7
  rectangle: -7.42,4.65 -6.545,5.7
  rectangle: 5.28,4.65 6.155,5.7
  rectangle: 4.01,4.65 4.885,5.7
  rectangle: 2.74,4.65 3.615,5.7
  rectangle: 1.47,4.65 2.345,5.7
  rectangle: 0.2,4.65 1.075,5.7
  rectangle: -1.07,4.65 -0.195,5.7
  rectangle: -2.34,4.65 -1.465,5.7
  rectangle: -6.15,4.65 -5.275,5.7
  rectangle: -4.88,4.65 -4.005,5.7
  rectangle: -3.61,4.65 -2.735,5.7
  rectangle: 12.9,4.65 13.775,5.7
  rectangle: 11.63,4.65 12.505,5.7
  rectangle: 10.36,4.65 11.235,5.7
  rectangle: 9.09,4.65 9.965,5.7
  rectangle: 7.82,4.65 8.695,5.7
  rectangle: 6.55,4.65 7.425,5.7
  rectangle: 15.44,4.65 16.315,5.7
  rectangle: 14.17,4.65 15.045,5.7
  rectangle: 16.71,4.65 17.585,5.7
  rectangle: 17.98,4.65 18.855,5.7
  region: -11.63,-4.65 -12.505,-4.65 -12.505,-5.7 -11.63,-5.7
  region: -12.9,-4.65 -13.775,-4.65 -13.775,-5.7 -12.9,-5.7
  region: -14.17,-4.65 -15.045,-4.65 -15.045,-5.7 -14.17,-5.7
  region: -15.44,-4.65 -16.315,-4.65 -16.315,-5.7 -15.44,-5.7
  region: -16.71,-4.65 -17.585,-4.65 -17.585,-5.7 -16.71,-5.7
  region: -17.98,-4.65 -18.855,-4.65 -18.855,-5.7 -17.98,-5.7
  region: -9.09,-4.65 -9.965,-4.65 -9.965,-5.7 -9.09,-5.7
  region: -10.36,-4.65 -11.235,-4.65 -11.235,-5.7 -10.36,-5.7
  region: -7.82,-4.65 -8.695,-4.65 -8.695,-5.7 -7.82,-5.7
  region: -6.55,-4.65 -7.425,-4.65 -7.425,-5.7 -6.55,-5.7
  region: -1.47,-4.65 -2.345,-4.65 -2.345,-5.7 -1.47,-5.7
  region: -2.74,-4.65 -3.615,-4.65 -3.615,-5.7 -2.74,-5.7
  region: -4.01,-4.65 -4.885,-4.65 -4.885,-5.7 -4.01,-5.7
  region: -5.28,-4.65 -6.155,-4.65 -6.155,-5.7 -5.28,-5.7
  region: -0.2,-4.65 -1.075,-4.65 -1.075,-5.7 -0.2,-5.7
  region: 1.07,-4.65 0.195,-4.65 0.195,-5.7 1.07,-5.7
  region: 2.34,-4.65 1.465,-4.65 1.465,-5.7 2.34,-5.7
  region: 6.15,-4.65 5.275,-4.65 5.275,-5.7 6.15,-5.7
  region: 4.88,-4.65 4.005,-4.65 4.005,-5.7 4.88,-5.7
  region: 3.61,-4.65 2.735,-4.65 2.735,-5.7 3.61,-5.7
  region: 11.23,-4.65 10.355,-4.65 10.355,-5.7 11.23,-5.7
  region: 9.96,-4.65 9.085,-4.65 9.085,-5.7 9.96,-5.7
  region: 8.69,-4.65 7.815,-4.65 7.815,-5.7 8.69,-5.7
  region: 7.42,-4.65 6.545,-4.65 6.545,-5.7 7.42,-5.7
  region: 12.5,-4.65 11.625,-4.65 11.625,-5.7 12.5,-5.7
  region: 13.77,-4.65 12.895,-4.65 12.895,-5.7 13.77,-5.7
  region: 15.04,-4.65 14.165,-4.65 14.165,-5.7 15.04,-5.7
  region: 18.85,-4.65 17.975,-4.65 17.975,-5.7 18.85,-5.7
  region: 17.58,-4.65 16.705,-4.65 16.705,-5.7 17.58,-5.7
  region: 16.31,-4.65 15.435,-4.65 15.435,-5.7 16.31,-5.7
  lines w0.203: -22,-4.6 22,-4.6 ; -22,4.6 22,4.6

## 050_610_HF-34/68 [mm]
pads (70):
  round 3.18 hole 3.18: 1(-28.27,0) 1(28.27,0)
  rect 1x2.5 smd: 1(-20.955,5.715) 2(-19.685,5.715) 3(-18.415,5.715) 4(-17.145,5.715) 5(-15.875,5.715) 6(-14.605,5.715) 7(-13.335,5.715) 8(-12.065,5.715) 9(-10.795,5.715) 10(-9.525,5.715) 11(-8.255,5.715) 12(-6.985,5.715) 13(-5.715,5.715) 14(-4.445,5.715) 15(-3.175,5.715) 16(-1.905,5.715) 17(-0.635,5.715) 18(0.635,5.715) 19(1.905,5.715) 20(3.175,5.715) 21(4.445,5.715) 22(5.715,5.715) 23(6.985,5.715) 24(8.255,5.715) 25(9.525,5.715) 26(10.795,5.715) 27(12.065,5.715) 28(13.335,5.715) 29(14.605,5.715) 30(15.875,5.715) 31(17.145,5.715) 32(18.415,5.715) 33(19.685,5.715) 34(20.955,5.715) 35(-20.955,-5.715) 36(-19.685,-5.715) 37(-18.415,-5.715) 38(-17.145,-5.715) 39(-15.875,-5.715) 40(-14.605,-5.715) 41(-13.335,-5.715) 42(-12.065,-5.715) 43(-10.795,-5.715) 44(-9.525,-5.715) 45(-8.255,-5.715) 46(-6.985,-5.715) 47(-5.715,-5.715) 48(-4.445,-5.715) 49(-3.175,-5.715) 50(-1.905,-5.715) 51(-0.635,-5.715) 52(0.635,-5.715) 53(1.905,-5.715) 54(3.175,-5.715) 55(4.445,-5.715) 56(5.715,-5.715) 57(6.985,-5.715) 58(8.255,-5.715) 59(9.525,-5.715) 60(10.795,-5.715) 61(12.065,-5.715) 62(13.335,-5.715) 63(14.605,-5.715) 64(15.875,-5.715) 65(17.145,-5.715) 66(18.415,-5.715) 67(19.685,-5.715) 68(20.955,-5.715)
Top Overlay:
  rectangle: -22.86,2.857 -22.225,3.492
  lines w0.203: -24.447,-1.905 ccw(c-24.448,-0.952) -23.495,-0.953 -23.495,0.953 ccw(c-24.447,0.953) -24.447,1.905 ; -32.19,-4.6 -24.54,-4.6 -24.54,4.6 -32.19,4.6 -32.19,-4.6 ; -22.75,-1.15 22.775,-1.15 22.775,1.15 -22.75,1.15 -22.75,-1.15 ; -22.115,-0.515 22.14,-0.515 22.14,0.515 -22.115,0.515 -22.115,-0.515 ; 24.54,-4.6 32.165,-4.6 32.165,4.6 24.54,4.6 24.54,-4.6
Mechanical 16:
  rectangle: -21.39,4.65 -20.515,5.7
  rectangle: -20.12,4.65 -19.245,5.7
  rectangle: -18.85,4.65 -17.975,5.7
  rectangle: -17.58,4.65 -16.705,5.7
  rectangle: -16.31,4.65 -15.435,5.7
  rectangle: -15.04,4.65 -14.165,5.7
  rectangle: -13.77,4.65 -12.895,5.7
  rectangle: -12.5,4.65 -11.625,5.7
  rectangle: -11.23,4.65 -10.355,5.7
  rectangle: -9.96,4.65 -9.085,5.7
  rectangle: 2.74,4.65 3.615,5.7
  rectangle: 1.47,4.65 2.345,5.7
  rectangle: 0.2,4.65 1.075,5.7
  rectangle: -1.07,4.65 -0.195,5.7
  rectangle: -2.34,4.65 -1.465,5.7
  rectangle: -3.61,4.65 -2.735,5.7
  rectangle: -4.88,4.65 -4.005,5.7
  rectangle: -8.69,4.65 -7.815,5.7
  rectangle: -7.42,4.65 -6.545,5.7
  rectangle: -6.15,4.65 -5.275,5.7
  rectangle: 10.36,4.65 11.235,5.7
  rectangle: 9.09,4.65 9.965,5.7
  rectangle: 7.82,4.65 8.695,5.7
  rectangle: 6.55,4.65 7.425,5.7
  rectangle: 5.28,4.65 6.155,5.7
  rectangle: 4.01,4.65 4.885,5.7
  rectangle: 12.9,4.65 13.775,5.7
  rectangle: 11.63,4.65 12.505,5.7
  rectangle: 14.17,4.65 15.045,5.7
  rectangle: 15.44,4.65 16.315,5.7
  region: -19.25,-4.65 -20.125,-4.65 -20.125,-5.7 -19.25,-5.7
  region: -20.52,-4.65 -21.395,-4.65 -21.395,-5.7 -20.52,-5.7
  rectangle: 20.52,4.65 21.395,5.7
  rectangle: 19.25,4.65 20.125,5.7
  rectangle: 17.98,4.65 18.855,5.7
  rectangle: 16.71,4.65 17.585,5.7
  region: -16.71,-4.65 -17.585,-4.65 -17.585,-5.7 -16.71,-5.7
  region: -17.98,-4.65 -18.855,-4.65 -18.855,-5.7 -17.98,-5.7
  region: -15.44,-4.65 -16.315,-4.65 -16.315,-5.7 -15.44,-5.7
  region: -14.17,-4.65 -15.045,-4.65 -15.045,-5.7 -14.17,-5.7
  region: -9.09,-4.65 -9.965,-4.65 -9.965,-5.7 -9.09,-5.7
  region: -10.36,-4.65 -11.235,-4.65 -11.235,-5.7 -10.36,-5.7
  region: -11.63,-4.65 -12.505,-4.65 -12.505,-5.7 -11.63,-5.7
  region: -12.9,-4.65 -13.775,-4.65 -13.775,-5.7 -12.9,-5.7
  region: -7.82,-4.65 -8.695,-4.65 -8.695,-5.7 -7.82,-5.7
  region: -6.55,-4.65 -7.425,-4.65 -7.425,-5.7 -6.55,-5.7
  region: -5.28,-4.65 -6.155,-4.65 -6.155,-5.7 -5.28,-5.7
  region: -1.47,-4.65 -2.345,-4.65 -2.345,-5.7 -1.47,-5.7
  region: -2.74,-4.65 -3.615,-4.65 -3.615,-5.7 -2.74,-5.7
  region: -4.01,-4.65 -4.885,-4.65 -4.885,-5.7 -4.01,-5.7
  region: 3.61,-4.65 2.735,-4.65 2.735,-5.7 3.61,-5.7
  region: 2.34,-4.65 1.465,-4.65 1.465,-5.7 2.34,-5.7
  region: 1.07,-4.65 0.195,-4.65 0.195,-5.7 1.07,-5.7
  region: -0.2,-4.65 -1.075,-4.65 -1.075,-5.7 -0.2,-5.7
  region: 4.88,-4.65 4.005,-4.65 4.005,-5.7 4.88,-5.7
  region: 6.15,-4.65 5.275,-4.65 5.275,-5.7 6.15,-5.7
  region: 7.42,-4.65 6.545,-4.65 6.545,-5.7 7.42,-5.7
  region: 11.23,-4.65 10.355,-4.65 10.355,-5.7 11.23,-5.7
  region: 9.96,-4.65 9.085,-4.65 9.085,-5.7 9.96,-5.7
  region: 8.69,-4.65 7.815,-4.65 7.815,-5.7 8.69,-5.7
  region: 16.31,-4.65 15.435,-4.65 15.435,-5.7 16.31,-5.7
  region: 15.04,-4.65 14.165,-4.65 14.165,-5.7 15.04,-5.7
  region: 13.77,-4.65 12.895,-4.65 12.895,-5.7 13.77,-5.7
  region: 12.5,-4.65 11.625,-4.65 11.625,-5.7 12.5,-5.7
  region: 17.58,-4.65 16.705,-4.65 16.705,-5.7 17.58,-5.7
  region: 18.85,-4.65 17.975,-4.65 17.975,-5.7 18.85,-5.7
  region: 20.12,-4.65 19.245,-4.65 19.245,-5.7 20.12,-5.7
  region: 21.39,-4.65 20.515,-4.65 20.515,-5.7 21.39,-5.7
  lines w0.203: -24.54,-4.6 24.54,-4.6 ; -24.54,4.6 24.54,4.6

## 050_610_HF-35/70 [mm]
pads (72):
  round 3.18 hole 3.18: 1(-28.905,0) 1(28.905,0)
  rect 1x2.5 smd: 1(-21.59,5.715) 2(-20.32,5.715) 3(-19.05,5.715) 4(-17.78,5.715) 5(-16.51,5.715) 6(-15.24,5.715) 7(-13.97,5.715) 8(-12.7,5.715) 9(-11.43,5.715) 10(-10.16,5.715) 11(-8.89,5.715) 12(-7.62,5.715) 13(-6.35,5.715) 14(-5.08,5.715) 15(-3.81,5.715) 16(-2.54,5.715) 17(-1.27,5.715) 18(0,5.715) 19(1.27,5.715) 20(2.54,5.715) 21(3.81,5.715) 22(5.08,5.715) 23(6.35,5.715) 24(7.62,5.715) 25(8.89,5.715) 26(10.16,5.715) 27(11.43,5.715) 28(12.7,5.715) 29(13.97,5.715) 30(15.24,5.715) 31(16.51,5.715) 32(17.78,5.715) 33(19.05,5.715) 34(20.32,5.715) 35(21.59,5.715) 36(-21.59,-5.715) 37(-20.32,-5.715) 38(-19.05,-5.715) 39(-17.78,-5.715) 40(-16.51,-5.715) 41(-15.24,-5.715) 42(-13.97,-5.715) 43(-12.7,-5.715) 44(-11.43,-5.715) 45(-10.16,-5.715) 46(-8.89,-5.715) 47(-7.62,-5.715) 48(-6.35,-5.715) 49(-5.08,-5.715) 50(-3.81,-5.715) 51(-2.54,-5.715) 52(-1.27,-5.715) 53(0,-5.715) 54(1.27,-5.715) 55(2.54,-5.715) 56(3.81,-5.715) 57(5.08,-5.715) 58(6.35,-5.715) 59(7.62,-5.715) 60(8.89,-5.715) 61(10.16,-5.715) 62(11.43,-5.715) 63(12.7,-5.715) 64(13.97,-5.715) 65(15.24,-5.715) 66(16.51,-5.715) 67(17.78,-5.715) 68(19.05,-5.715) 69(20.32,-5.715) 70(21.59,-5.715)
Top Overlay:
  rectangle: -23.495,2.857 -22.86,3.492
  lines w0.203: -25.082,-1.905 ccw(c-25.083,-0.952) -24.13,-0.953 -24.13,0.953 ccw(c-25.082,0.953) -25.082,1.905 ; -32.825,-4.6 -25.175,-4.6 -25.175,4.6 -32.825,4.6 -32.825,-4.6 ; -23.385,-1.15 23.41,-1.15 23.41,1.15 -23.385,1.15 -23.385,-1.15 ; -22.75,-0.515 22.775,-0.515 22.775,0.515 -22.75,0.515 -22.75,-0.515 ; 25.175,-4.6 32.8,-4.6 32.8,4.6 25.175,4.6 25.175,-4.6
Mechanical 16:
  rectangle: -22.025,4.65 -21.15,5.7
  rectangle: -20.755,4.65 -19.88,5.7
  rectangle: -19.485,4.65 -18.61,5.7
  rectangle: -18.215,4.65 -17.34,5.7
  rectangle: -16.945,4.65 -16.07,5.7
  rectangle: -15.675,4.65 -14.8,5.7
  rectangle: -14.405,4.65 -13.53,5.7
  rectangle: -13.135,4.65 -12.26,5.7
  rectangle: -11.865,4.65 -10.99,5.7
  rectangle: -10.595,4.65 -9.72,5.7
  rectangle: 2.105,4.65 2.98,5.7
  rectangle: 0.835,4.65 1.71,5.7
  rectangle: -0.435,4.65 0.44,5.7
  rectangle: -1.705,4.65 -0.83,5.7
  rectangle: -2.975,4.65 -2.1,5.7
  rectangle: -4.245,4.65 -3.37,5.7
  rectangle: -5.515,4.65 -4.64,5.7
  rectangle: -9.325,4.65 -8.45,5.7
  rectangle: -8.055,4.65 -7.18,5.7
  rectangle: -6.785,4.65 -5.91,5.7
  rectangle: 9.725,4.65 10.6,5.7
  rectangle: 8.455,4.65 9.33,5.7
  rectangle: 7.185,4.65 8.06,5.7
  rectangle: 5.915,4.65 6.79,5.7
  rectangle: 4.645,4.65 5.52,5.7
  rectangle: 3.375,4.65 4.25,5.7
  rectangle: 12.265,4.65 13.14,5.7
  rectangle: 10.995,4.65 11.87,5.7
  rectangle: 13.535,4.65 14.41,5.7
  rectangle: 14.805,4.65 15.68,5.7
  region: -21.155,-4.65 -22.03,-4.65 -22.03,-5.7 -21.155,-5.7
  rectangle: 21.155,4.65 22.03,5.7
  rectangle: 19.885,4.65 20.76,5.7
  rectangle: 18.615,4.65 19.49,5.7
  rectangle: 17.345,4.65 18.22,5.7
  rectangle: 16.075,4.65 16.95,5.7
  region: -18.615,-4.65 -19.49,-4.65 -19.49,-5.7 -18.615,-5.7
  region: -19.885,-4.65 -20.76,-4.65 -20.76,-5.7 -19.885,-5.7
  region: -17.345,-4.65 -18.22,-4.65 -18.22,-5.7 -17.345,-5.7
  region: -16.075,-4.65 -16.95,-4.65 -16.95,-5.7 -16.075,-5.7
  region: -10.995,-4.65 -11.87,-4.65 -11.87,-5.7 -10.995,-5.7
  region: -12.265,-4.65 -13.14,-4.65 -13.14,-5.7 -12.265,-5.7
  region: -13.535,-4.65 -14.41,-4.65 -14.41,-5.7 -13.535,-5.7
  region: -14.805,-4.65 -15.68,-4.65 -15.68,-5.7 -14.805,-5.7
  region: -9.725,-4.65 -10.6,-4.65 -10.6,-5.7 -9.725,-5.7
  region: -8.455,-4.65 -9.33,-4.65 -9.33,-5.7 -8.455,-5.7
  region: -7.185,-4.65 -8.06,-4.65 -8.06,-5.7 -7.185,-5.7
  region: -3.375,-4.65 -4.25,-4.65 -4.25,-5.7 -3.375,-5.7
  region: -4.645,-4.65 -5.52,-4.65 -5.52,-5.7 -4.645,-5.7
  region: -5.915,-4.65 -6.79,-4.65 -6.79,-5.7 -5.915,-5.7
  region: 1.705,-4.65 0.83,-4.65 0.83,-5.7 1.705,-5.7
  region: 0.435,-4.65 -0.44,-4.65 -0.44,-5.7 0.435,-5.7
  region: -0.835,-4.65 -1.71,-4.65 -1.71,-5.7 -0.835,-5.7
  region: -2.105,-4.65 -2.98,-4.65 -2.98,-5.7 -2.105,-5.7
  region: 2.975,-4.65 2.1,-4.65 2.1,-5.7 2.975,-5.7
  region: 4.245,-4.65 3.37,-4.65 3.37,-5.7 4.245,-5.7
  region: 5.515,-4.65 4.64,-4.65 4.64,-5.7 5.515,-5.7
  region: 9.325,-4.65 8.45,-4.65 8.45,-5.7 9.325,-5.7
  region: 8.055,-4.65 7.18,-4.65 7.18,-5.7 8.055,-5.7
  region: 6.785,-4.65 5.91,-4.65 5.91,-5.7 6.785,-5.7
  region: 14.405,-4.65 13.53,-4.65 13.53,-5.7 14.405,-5.7
  region: 13.135,-4.65 12.26,-4.65 12.26,-5.7 13.135,-5.7
  region: 11.865,-4.65 10.99,-4.65 10.99,-5.7 11.865,-5.7
  region: 10.595,-4.65 9.72,-4.65 9.72,-5.7 10.595,-5.7
  region: 15.675,-4.65 14.8,-4.65 14.8,-5.7 15.675,-5.7
  region: 16.945,-4.65 16.07,-4.65 16.07,-5.7 16.945,-5.7
  region: 18.215,-4.65 17.34,-4.65 17.34,-5.7 18.215,-5.7
  region: 19.485,-4.65 18.61,-4.65 18.61,-5.7 19.485,-5.7
  region: 20.755,-4.65 19.88,-4.65 19.88,-5.7 20.755,-5.7
  region: 22.025,-4.65 21.15,-4.65 21.15,-5.7 22.025,-5.7
  lines w0.203: -25.175,-4.6 25.175,-4.6 ; -25.175,4.6 25.175,4.6

## 050_610_HF-40/80 [mm]
pads (82):
  round 3.18 hole 3.18: 1(-32.08,0) 1(32.08,0)
  rect 1x2.5 smd: 1(-24.765,5.715) 2(-23.495,5.715) 3(-22.225,5.715) 4(-20.955,5.715) 5(-19.685,5.715) 6(-18.415,5.715) 7(-17.145,5.715) 8(-15.875,5.715) 9(-14.605,5.715) 10(-13.335,5.715) 11(-12.065,5.715) 12(-10.795,5.715) 13(-9.525,5.715) 14(-8.255,5.715) 15(-6.985,5.715) 16(-5.715,5.715) 17(-4.445,5.715) 18(-3.175,5.715) 19(-1.905,5.715) 20(-0.635,5.715) 21(0.635,5.715) 22(1.905,5.715) 23(3.175,5.715) 24(4.445,5.715) 25(5.715,5.715) 26(6.985,5.715) 27(8.255,5.715) 28(9.525,5.715) 29(10.795,5.715) 30(12.065,5.715) 31(13.335,5.715) 32(14.605,5.715) 33(15.875,5.715) 34(17.145,5.715) 35(18.415,5.715) 36(19.685,5.715) 37(20.955,5.715) 38(22.225,5.715) 39(23.495,5.715) 40(24.765,5.715) 41(-24.765,-5.715) 42(-23.495,-5.715) 43(-22.225,-5.715) 44(-20.955,-5.715) 45(-19.685,-5.715) 46(-18.415,-5.715) 47(-17.145,-5.715) 48(-15.875,-5.715) 49(-14.605,-5.715) 50(-13.335,-5.715) 51(-12.065,-5.715) 52(-10.795,-5.715) 53(-9.525,-5.715) 54(-8.255,-5.715) 55(-6.985,-5.715) 56(-5.715,-5.715) 57(-4.445,-5.715) 58(-3.175,-5.715) 59(-1.905,-5.715) 60(-0.635,-5.715) 61(0.635,-5.715) 62(1.905,-5.715) 63(3.175,-5.715) 64(4.445,-5.715) 65(5.715,-5.715) 66(6.985,-5.715) 67(8.255,-5.715) 68(9.525,-5.715) 69(10.795,-5.715) 70(12.065,-5.715) 71(13.335,-5.715) 72(14.605,-5.715) 73(15.875,-5.715) 74(17.145,-5.715) 75(18.415,-5.715) 76(19.685,-5.715) 77(20.955,-5.715) 78(22.225,-5.715) 79(23.495,-5.715) 80(24.765,-5.715)
Top Overlay:
  rectangle: -26.67,2.857 -26.035,3.492
  lines w0.203: -28.257,-1.905 ccw(c-28.258,-0.952) -27.305,-0.953 -27.305,0.953 ccw(c-28.258,0.953) -28.258,1.905 ; -36,-4.6 -28.35,-4.6 -28.35,4.6 -36,4.6 -36,-4.6 ; -26.56,-1.15 26.585,-1.15 26.585,1.15 -26.56,1.15 -26.56,-1.15 ; -25.925,-0.515 25.95,-0.515 25.95,0.515 -25.925,0.515 -25.925,-0.515 ; 28.35,-4.6 35.975,-4.6 35.975,4.6 28.35,4.6 28.35,-4.6
Mechanical 16:
  rectangle: -25.2,4.65 -24.325,5.7
  rectangle: -23.93,4.65 -23.055,5.7
  rectangle: -22.66,4.65 -21.785,5.7
  rectangle: -21.39,4.65 -20.515,5.7
  rectangle: -20.12,4.65 -19.245,5.7
  rectangle: -18.85,4.65 -17.975,5.7
  rectangle: -17.58,4.65 -16.705,5.7
  rectangle: -16.31,4.65 -15.435,5.7
  rectangle: -15.04,4.65 -14.165,5.7
  rectangle: -13.77,4.65 -12.895,5.7
  rectangle: -1.07,4.65 -0.195,5.7
  rectangle: -2.34,4.65 -1.465,5.7
  rectangle: -3.61,4.65 -2.735,5.7
  rectangle: -4.88,4.65 -4.005,5.7
  rectangle: -6.15,4.65 -5.275,5.7
  rectangle: -7.42,4.65 -6.545,5.7
  rectangle: -8.69,4.65 -7.815,5.7
  rectangle: -12.5,4.65 -11.625,5.7
  rectangle: -11.23,4.65 -10.355,5.7
  rectangle: -9.96,4.65 -9.085,5.7
  rectangle: 6.55,4.65 7.425,5.7
  rectangle: 5.28,4.65 6.155,5.7
  rectangle: 4.01,4.65 4.885,5.7
  rectangle: 2.74,4.65 3.615,5.7
  rectangle: 1.47,4.65 2.345,5.7
  rectangle: 0.2,4.65 1.075,5.7
  rectangle: 9.09,4.65 9.965,5.7
  rectangle: 7.82,4.65 8.695,5.7
  rectangle: 10.36,4.65 11.235,5.7
  rectangle: 11.63,4.65 12.505,5.7
  rectangle: 19.25,4.65 20.125,5.7
  rectangle: 17.98,4.65 18.855,5.7
  rectangle: 16.71,4.65 17.585,5.7
  rectangle: 15.44,4.65 16.315,5.7
  rectangle: 14.17,4.65 15.045,5.7
  rectangle: 12.9,4.65 13.775,5.7
  rectangle: 21.79,4.65 22.665,5.7
  rectangle: 20.52,4.65 21.395,5.7
  rectangle: 23.06,4.65 23.935,5.7
  rectangle: 24.33,4.65 25.205,5.7
  region: -20.52,-4.65 -21.395,-4.65 -21.395,-5.7 -20.52,-5.7
  region: -21.79,-4.65 -22.665,-4.65 -22.665,-5.7 -21.79,-5.7
  region: -23.06,-4.65 -23.935,-4.65 -23.935,-5.7 -23.06,-5.7
  region: -24.33,-4.65 -25.205,-4.65 -25.205,-5.7 -24.33,-5.7
  region: -19.25,-4.65 -20.125,-4.65 -20.125,-5.7 -19.25,-5.7
  region: -17.98,-4.65 -18.855,-4.65 -18.855,-5.7 -17.98,-5.7
  region: -16.71,-4.65 -17.585,-4.65 -17.585,-5.7 -16.71,-5.7
  region: -12.9,-4.65 -13.775,-4.65 -13.775,-5.7 -12.9,-5.7
  region: -14.17,-4.65 -15.045,-4.65 -15.045,-5.7 -14.17,-5.7
  region: -15.44,-4.65 -16.315,-4.65 -16.315,-5.7 -15.44,-5.7
  region: -7.82,-4.65 -8.695,-4.65 -8.695,-5.7 -7.82,-5.7
  region: -9.09,-4.65 -9.965,-4.65 -9.965,-5.7 -9.09,-5.7
  region: -10.36,-4.65 -11.235,-4.65 -11.235,-5.7 -10.36,-5.7
  region: -11.63,-4.65 -12.505,-4.65 -12.505,-5.7 -11.63,-5.7
  region: -6.55,-4.65 -7.425,-4.65 -7.425,-5.7 -6.55,-5.7
  region: -5.28,-4.65 -6.155,-4.65 -6.155,-5.7 -5.28,-5.7
  region: -4.01,-4.65 -4.885,-4.65 -4.885,-5.7 -4.01,-5.7
  region: -0.2,-4.65 -1.075,-4.65 -1.075,-5.7 -0.2,-5.7
  region: -1.47,-4.65 -2.345,-4.65 -2.345,-5.7 -1.47,-5.7
  region: -2.74,-4.65 -3.615,-4.65 -3.615,-5.7 -2.74,-5.7
  region: 4.88,-4.65 4.005,-4.65 4.005,-5.7 4.88,-5.7
  region: 3.61,-4.65 2.735,-4.65 2.735,-5.7 3.61,-5.7
  region: 2.34,-4.65 1.465,-4.65 1.465,-5.7 2.34,-5.7
  region: 1.07,-4.65 0.195,-4.65 0.195,-5.7 1.07,-5.7
  region: 6.15,-4.65 5.275,-4.65 5.275,-5.7 6.15,-5.7
  region: 7.42,-4.65 6.545,-4.65 6.545,-5.7 7.42,-5.7
  region: 8.69,-4.65 7.815,-4.65 7.815,-5.7 8.69,-5.7
  region: 9.96,-4.65 9.085,-4.65 9.085,-5.7 9.96,-5.7
  region: 11.23,-4.65 10.355,-4.65 10.355,-5.7 11.23,-5.7
  region: 12.5,-4.65 11.625,-4.65 11.625,-5.7 12.5,-5.7
  region: 15.04,-4.65 14.165,-4.65 14.165,-5.7 15.04,-5.7
  region: 13.77,-4.65 12.895,-4.65 12.895,-5.7 13.77,-5.7
  region: 20.12,-4.65 19.245,-4.65 19.245,-5.7 20.12,-5.7
  region: 18.85,-4.65 17.975,-4.65 17.975,-5.7 18.85,-5.7
  region: 17.58,-4.65 16.705,-4.65 16.705,-5.7 17.58,-5.7
  region: 16.31,-4.65 15.435,-4.65 15.435,-5.7 16.31,-5.7
  region: 21.39,-4.65 20.515,-4.65 20.515,-5.7 21.39,-5.7
  region: 22.66,-4.65 21.785,-4.65 21.785,-5.7 22.66,-5.7
  region: 23.93,-4.65 23.055,-4.65 23.055,-5.7 23.93,-5.7
  region: 25.2,-4.65 24.325,-4.65 24.325,-5.7 25.2,-5.7
  lines w0.203: -28.35,-4.6 28.35,-4.6 ; -28.35,4.6 28.35,4.6